# Altium integrated library TPD2E001DRLR.IntLib: 1 symbol
Pins are listed as number, name and electrical type; pins without a type are passive.

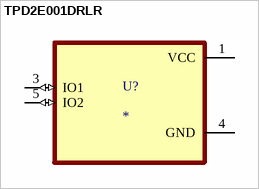
[diagram p0: symbol TPD2E001DRLR]

## TPD2E001DRLR
designator U?
Dual 1.5-pF, 5.5-V, Â±8-kV ESD protection diode with 1-nA max leakage & VCC pin for USB 2.0; MF: Texas Instruments; MP: TPD2E001DRLR; SnapEDA_Link: https://www.snapeda.com/parts/TPD2E001DRLR/Texas+Instruments/view-part/?ref=snap; Package: SOT-5X3-5 Texas Instruments; Value: *; Check_prices: https://www.snapeda.com/parts/TPD2E001DRLR/Texas+Instruments/view-part/?ref=eda
footprint SOT50P160X60-5N
pins: 1 VCC (power), 3 IO1 (io), 4 GND (power), 5 IO2 (io)